# Altium footprint library SnapEDApcb.PcbLib: 1 footprints
Each footprint in its own frame and in the unit in brackets; x right, y up, seen from the top. Pads: shape width x height; smd on the part's side, far side on the other; paste and mask are expansions set on the pad; w line width, h text height; cw(c..) or ccw(c..) is an arc to the next point about the centre after c.
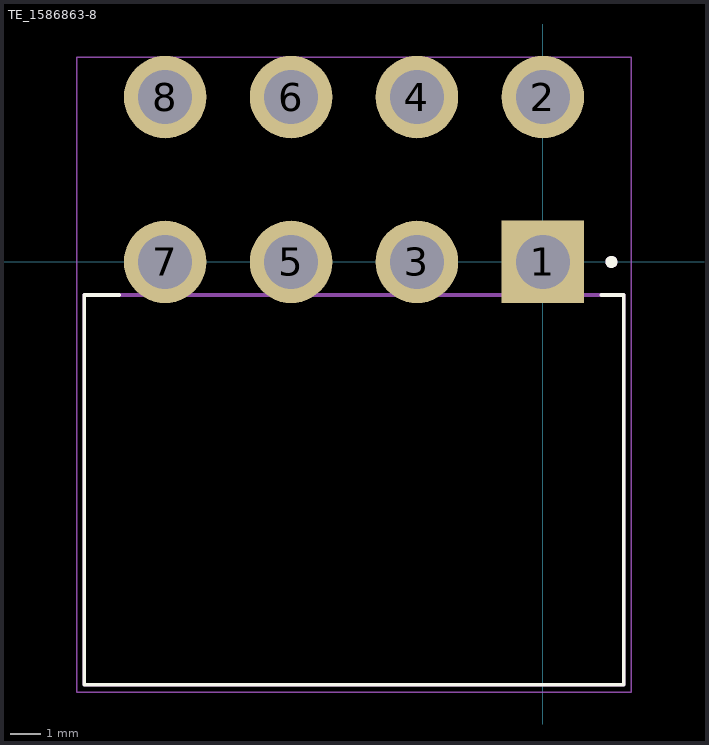
[diagram p0: the footprint, top view; thin cyan lines are the x and y axes]

## TE_1586863-8 [mm]
pads (8):
  rect 2.75x2.75 hole 1.8: 1(0,0)
  round 2.75 hole 1.8: 2(0,5.5) 3(-4.2,0) 4(-4.2,5.5) 5(-8.4,0) 6(-8.4,5.5) 7(-12.6,0) 8(-12.6,5.5)
Top Overlay:
  circle w0.2: c2.286,0 r0.1
  lines w0.127: -14.14,-1.1 -15.3,-1.1 -15.3,-14.1 2.7,-14.1 2.7,-1.1 1.948,-1.1
Mechanical 13:
  circle w0.2: c2.286,0 r0.1
  lines w0.127: -15.3,-14.1 -15.3,-1.1 2.7,-1.1 2.7,-14.1 ; -15.3,-14.1 2.7,-14.1 ; -15.3,-14.1 2.7,-14.1
Mechanical 15:
  lines w0.05: -15.55,-14.35 -15.55,6.825 2.95,6.825 2.95,-14.35 -15.55,-14.35
3D body "1586863-8.stp": height 11.25, standoff -3.55, extent -15.325,-14.005 3.175,6.131